# Altium footprint library WS-TASV.PcbLib: 101 footprints (part 5 of 7)
Each footprint in its own frame and in the unit in brackets; x right, y up, seen from the top. Pads: shape width x height; smd on the part's side, far side on the other; paste and mask are expansions set on the pad; w line width, h text height; cw(c..) or ccw(c..) is an arc to the next point about the centre after c.
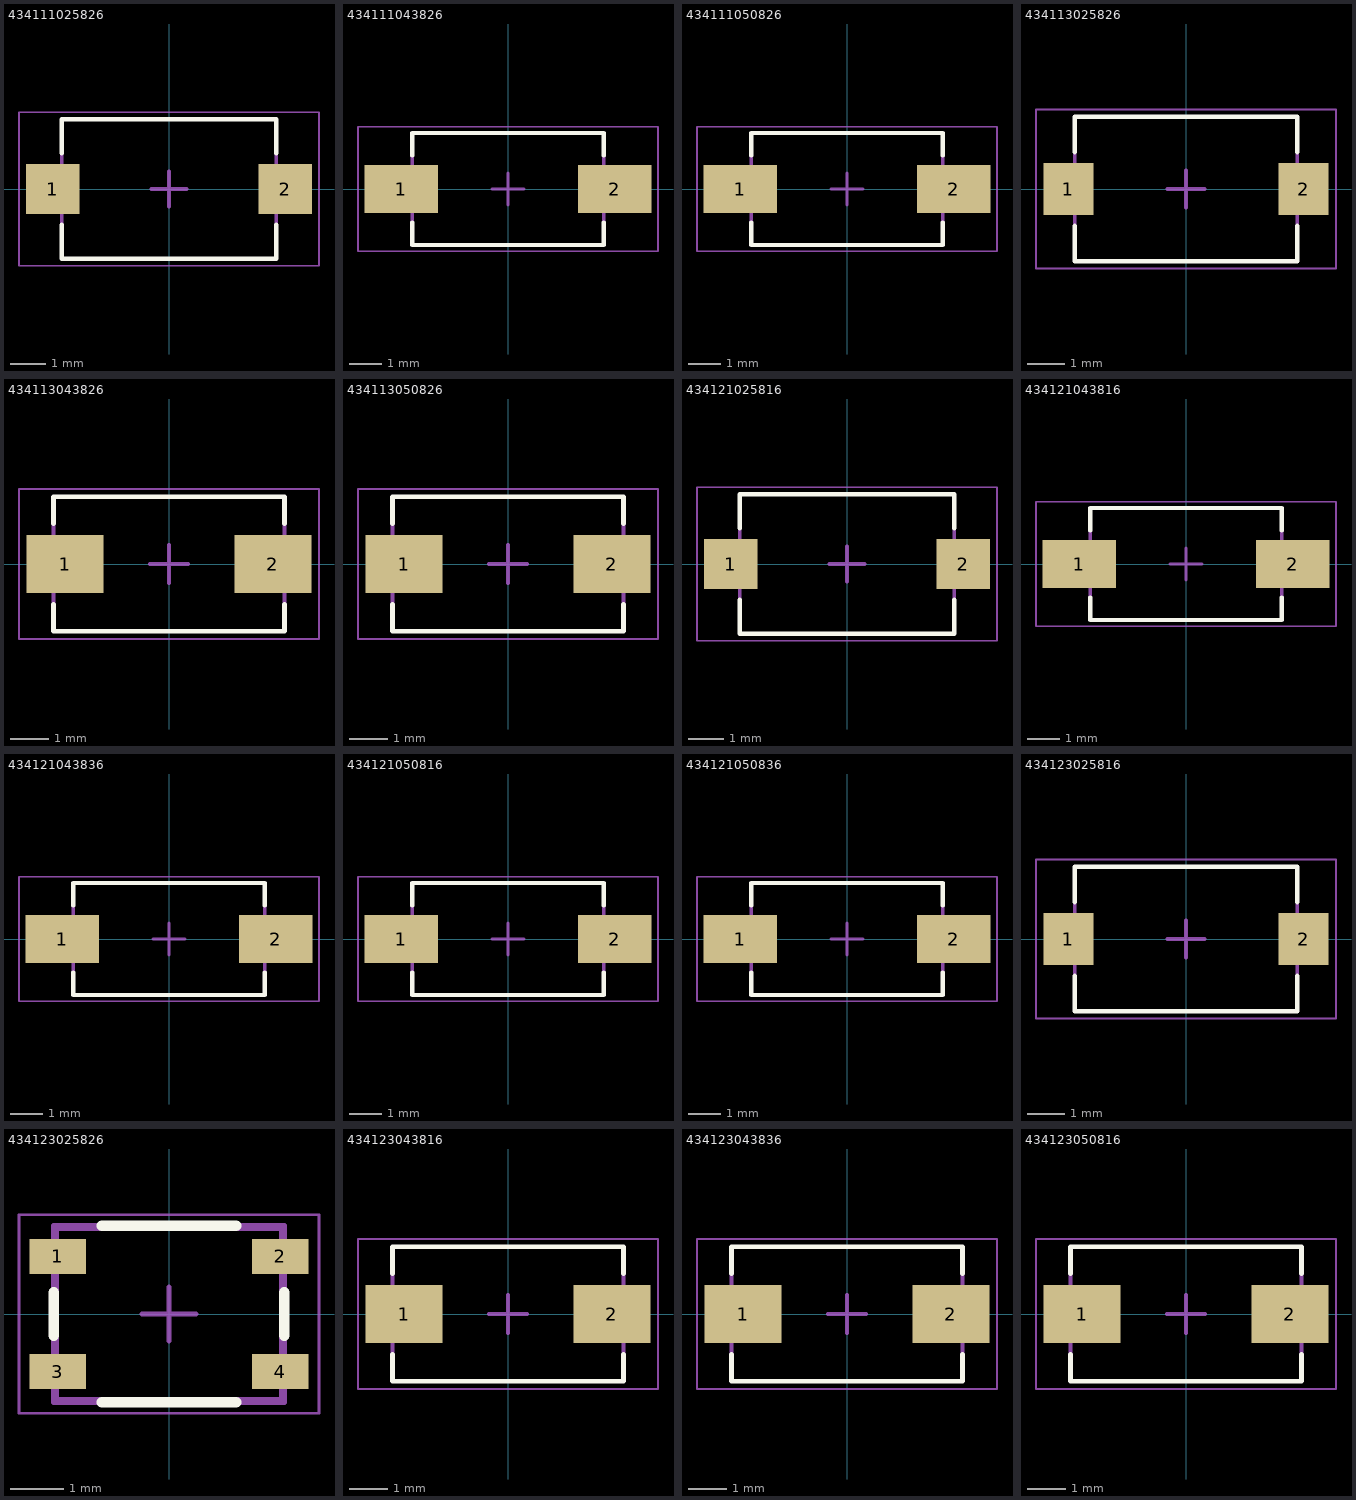
[diagram p4: the footprints below, top view; thin cyan lines are the x and y axes]

## 434111025826 [mm] "SMD Tact Switch, body 6x3.8mm"
height 2.5
pads (2):
  rect 1.5x1.4 smd: 1(-3.25,0) 2(3.25,0)
Top Overlay:
  lines w0.127: -3,-1 -3,-1.95 3,-1.95 3,-1 ; -3,1 -3,1.95 3,1.95 3,1
Top Assembly:
  lines w0.1: -3,-0.5 -3.65,-0.5 -3.65,0.5 -3,0.5 ; 3,-0.5 3.65,-0.5 3.65,0.5 3,0.5 ; -3,-1.95 -3,1.95 3,1.95 3,-1.95 -3,-1.95
Top Designator:
  text ".Designator" at -3.647,-0.357 h1
Top Courtyard:
  lines w0.05: -4.2,-2.15 4.2,-2.15 4.2,2.15 -4.2,2.15 -4.2,-2.15
Top Component Center:
  lines w0.1: -0.5,0 0.5,0 ; 0,-0.5 0,0.5
3D body "4341x10258xx.stp": height 2.5, standoff 0, extent -3.65,-1.95 3.65,1.95

## 434111043826 [mm] "SMD Tact Switch, body 6x3.5mm"
height 4.3
pads (2):
  rect 2.3x1.5 smd: 1(-3.35,0) 2(3.35,0)
Top Overlay:
  lines w0.127: -3,-1.05 -3,-1.75 3,-1.75 3,-1.05 ; -3,1.05 -3,1.75 3,1.75 3,1.05
Top Assembly:
  lines w0.1: -3,-0.5 -4,-0.5 -4,0.5 -3,0.5 ; 3,-0.5 4,-0.5 4,0.5 3,0.5 ; -3,-1.75 -3,1.75 3,1.75 3,-1.75 -3,-1.75
Top Designator:
  text ".Designator" at -3.647,-0.357 h1
Top Courtyard:
  lines w0.05: -4.7,-1.95 -4.7,1.95 4.7,1.95 4.7,-1.95 -4.7,-1.95
Top Component Center:
  lines w0.1: -0.5,0 0.5,0 ; 0,-0.5 0,0.5
3D body "4341x10438x6.stp": height 4.3, standoff 0, extent -4,-1.75 4,1.75

## 434111050826 [mm] "SMD Tact Switch, body 6x3.5mm"
height 5
pads (2):
  rect 2.3x1.5 smd: 1(-3.35,0) 2(3.35,0)
Top Overlay:
  lines w0.127: -3,-1.05 -3,-1.75 3,-1.75 3,-1.05 ; -3,1.05 -3,1.75 3,1.75 3,1.05
Top Assembly:
  lines w0.1: -3,-0.5 -4,-0.5 -4,0.5 -3,0.5 ; 3,-0.5 4,-0.5 4,0.5 3,0.5 ; -3,-1.75 -3,1.75 3,1.75 3,-1.75 -3,-1.75
Top Designator:
  text ".Designator" at -3.647,-0.357 h1
Top Courtyard:
  lines w0.05: -4.7,-1.95 -4.7,1.95 4.7,1.95 4.7,-1.95 -4.7,-1.95
Top Component Center:
  lines w0.1: -0.5,0 0.5,0 ; 0,-0.5 0,0.5
3D body "4341x10508x6.stp": height 5, standoff 0, extent -4,-1.75 4,1.75

## 434113025826 [mm] "SMD Tact Switch, body 6x3.8mm"
height 2.5
pads (2):
  rect 1.35x1.4 smd: 1(-3.175,0) 2(3.175,0)
Top Overlay:
  lines w0.127: -3,-1 -3,-1.95 3,-1.95 3,-1 ; -3,1 -3,1.95 3,1.95 3,1
Top Assembly:
  lines w0.1: -3,-1.95 3,-1.95 3,1.95 -3,1.95 -3,-1.95
Top Designator:
  text ".Designator" at -3.647,-0.357 h1
Top Courtyard:
  lines w0.05: -4.05,-2.15 4.05,-2.15 4.05,2.15 -4.05,2.15 -4.05,-2.15
Top Component Center:
  lines w0.1: -0.5,0 0.5,0 ; 0,-0.5 0,0.5
3D body "4341x30258xx.stp": height 2.5, standoff 0, extent -3.5,-1.95 3.5,1.95

## 434113043826 [mm] "SMD Tact Switch, body 6x3.5mm"
height 4.3
pads (2):
  rect 2x1.5 smd: 1(-2.7,0) 2(2.7,0)
Top Overlay:
  lines w0.127: -3,-1.05 -3,-1.75 3,-1.75 3,-1.05 ; -3,1.05 -3,1.75 3,1.75 3,1.05
Top Assembly:
  lines w0.1: -3,-1.75 3,-1.75 3,1.75 -3,1.75 -3,-1.75
Top Designator:
  text ".Designator" at -3.647,-0.357 h1
Top Courtyard:
  lines w0.05: -3.9,-1.95 -3.9,1.95 3.9,1.95 3.9,-1.95 -3.9,-1.95
Top Component Center:
  lines w0.1: -0.5,0 0.5,0 ; 0,-0.5 0,0.5
3D body "4341x30438x6.stp": height 4.3, standoff 0, extent -3.649,-1.75 3.65,1.75

## 434113050826 [mm] "SMD Tact Switch, body 6x3.5mm"
height 5
pads (2):
  rect 2x1.5 smd: 1(-2.7,0) 2(2.7,0)
Top Overlay:
  lines w0.127: -3,-1.05 -3,-1.75 3,-1.75 3,-1.05 ; -3,1.05 -3,1.75 3,1.75 3,1.05
Top Assembly:
  lines w0.1: -3,-1.75 -3,1.75 3,1.75 3,-1.75 -3,-1.75
Top Designator:
  text ".Designator" at -3.647,-0.357 h1
Top Courtyard:
  lines w0.05: -3.9,-1.95 3.9,-1.95 3.9,1.95 -3.9,1.95 -3.9,-1.95
Top Component Center:
  lines w0.1: -0.5,0 0.5,0 ; 0,-0.5 0,0.5
3D body "4341x30508x6.stp": height 5, standoff 0, extent -3.649,-1.75 3.65,1.75

## 434121025816 [mm] "SMD Tact Switch, body 6x3.8mm"
height 2.5
pads (2):
  rect 1.5x1.4 smd: 1(-3.25,0) 2(3.25,0)
Top Overlay:
  lines w0.127: -3,-1 -3,-1.95 3,-1.95 3,-1 ; -3,1 -3,1.95 3,1.95 3,1
Top Assembly:
  lines w0.1: -3,-0.5 -3.65,-0.5 -3.65,0.5 -3,0.5 ; 3,-0.5 3.65,-0.5 3.65,0.5 3,0.5 ; -3,-1.95 3,-1.95 3,1.95 -3,1.95 -3,-1.95
Top Designator:
  text ".Designator" at -3.647,-0.357 h1
Top Courtyard:
  lines w0.05: -4.2,-2.15 -4.2,2.15 4.2,2.15 4.2,-2.15 -4.2,-2.15
Top Component Center:
  lines w0.1: -0.5,0 0.5,0 ; 0,-0.5 0,0.5
3D body "4341x10258xx.stp": height 2.5, standoff 0, extent -3.65,-1.95 3.65,1.95

## 434121043816 [mm] "SMD Tact Switch, body 6x3.5mm"
height 4.3
pads (2):
  rect 2.3x1.5 smd: 1(-3.35,0) 2(3.35,0)
Top Overlay:
  lines w0.127: -3,-1.05 -3,-1.75 3,-1.75 3,-1.05 ; -3,1.05 -3,1.75 3,1.75 3,1.05
Top Assembly:
  lines w0.1: -3,-0.5 -4,-0.5 -4,0.5 -3,0.5 ; 3,-0.5 4,-0.5 4,0.5 3,0.5 ; -3,-1.75 3,-1.75 3,1.75 -3,1.75 -3,-1.75
Top Designator:
  text ".Designator" at -3.647,-0.357 h1
Top Courtyard:
  lines w0.05: -4.7,-1.95 4.7,-1.95 4.7,1.95 -4.7,1.95 -4.7,-1.95
Top Component Center:
  lines w0.1: -0.5,0 0.5,0 ; 0,-0.5 0,0.5
3D body "4341x10438x6.stp": height 4.3, standoff 0, extent -4,-1.75 4,1.75

## 434121043836 [mm] "SMD Tact Switch, body 6x3.5mm"
height 4.3
pads (2):
  rect 2.3x1.5 smd: 1(-3.35,0) 2(3.35,0)
Top Overlay:
  lines w0.127: -3,-1.05 -3,-1.75 3,-1.75 3,-1.05 ; -3,1.05 -3,1.75 3,1.75 3,1.05
Top Assembly:
  lines w0.1: -3,-0.5 -4,-0.5 -4,0.5 -3,0.5 ; 3,-0.5 4,-0.5 4,0.5 3,0.5 ; -3,-1.75 -3,1.75 3,1.75 3,-1.75 -3,-1.75
Top Designator:
  text ".Designator" at -3.647,-0.357 h1
Top Courtyard:
  lines w0.05: -4.7,-1.95 -4.7,1.95 4.7,1.95 4.7,-1.95 -4.7,-1.95
Top Component Center:
  lines w0.1: -0.5,0 0.5,0 ; 0,-0.5 0,0.5
3D body "4341x10438x6.stp": height 4.3, standoff 0, extent -4,-1.75 4,1.75

## 434121050816 [mm] "SMD Tact Switch, body 6x3.5mm"
height 5
pads (2):
  rect 2.3x1.5 smd: 1(-3.35,0) 2(3.35,0)
Top Overlay:
  lines w0.127: -3,-1.05 -3,-1.75 3,-1.75 3,-1.05 ; -3,1.05 -3,1.75 3,1.75 3,1.05
Top Assembly:
  lines w0.1: -3,-0.5 -4,-0.5 -4,0.5 -3,0.5 ; 3,-0.5 4,-0.5 4,0.5 3,0.5 ; -3,-1.75 -3,1.75 3,1.75 3,-1.75 -3,-1.75
Top Designator:
  text ".Designator" at -3.647,-0.357 h1
Top Courtyard:
  lines w0.05: -4.7,-1.95 -4.7,1.95 4.7,1.95 4.7,-1.95 -4.7,-1.95
Top Component Center:
  lines w0.1: -0.5,0 0.5,0 ; 0,-0.5 0,0.5
3D body "4341x10508x6.stp": height 5, standoff 0, extent -4,-1.75 4,1.75

## 434121050836 [mm] "SMD Tact Switch, body 6x3.5mm"
height 5
pads (2):
  rect 2.3x1.5 smd: 1(-3.35,0) 2(3.35,0)
Top Overlay:
  lines w0.127: -3,-1.05 -3,-1.75 3,-1.75 3,-1.05 ; -3,1.05 -3,1.75 3,1.75 3,1.05
Top Assembly:
  lines w0.1: -3,-0.5 -4,-0.5 -4,0.5 -3,0.5 ; 3,-0.5 4,-0.5 4,0.5 3,0.5 ; -3,-1.75 3,-1.75 3,1.75 -3,1.75 -3,-1.75
Top Designator:
  text ".Designator" at -3.647,-0.357 h1
Top Courtyard:
  lines w0.05: -4.7,-1.95 4.7,-1.95 4.7,1.95 -4.7,1.95 -4.7,-1.95
Top Component Center:
  lines w0.1: -0.5,0 0.5,0 ; 0,-0.5 0,0.5
3D body "4341x10508x6.stp": height 5, standoff 0, extent -4,-1.75 4,1.75

## 434123025816 [mm] "SMD Tact Switch, body 6x3.8mm"
height 2.5
pads (2):
  rect 1.35x1.4 smd: 1(-3.175,0) 2(3.175,0)
Top Overlay:
  lines w0.127: -3,-1 -3,-1.95 3,-1.95 3,-1 ; -3,1 -3,1.95 3,1.95 3,1
Top Assembly:
  lines w0.1: -3,-1.95 -3,1.95 3,1.95 3,-1.95 -3,-1.95
Top Designator:
  text ".Designator" at -3.647,-0.357 h1
Top Courtyard:
  lines w0.05: -4.05,-2.15 -4.05,2.15 4.05,2.15 4.05,-2.15 -4.05,-2.15
Top Component Center:
  lines w0.1: -0.5,0 0.5,0 ; 0,-0.5 0,0.5
3D body "4341x30258xx.stp": height 2.5, standoff 0, extent -3.5,-1.95 3.5,1.95

## 434123025826 [mm] "Tact Switch, SMD, body 4.2x3.2mm"
height 2.5
pads (4):
  rect 1.05x0.65 smd: 1(-2.075,1.075) 2(2.075,1.075) 3(-2.075,-1.075) 4(2.075,-1.075)
Top Overlay:
  lines w0.2: -2.15,-0.4 -2.15,0.4 ; -1.25,-1.65 1.25,-1.65 ; -1.25,1.65 1.25,1.65 ; 2.15,-0.4 2.15,0.4
Top Assembly:
  lines w0.1: -2.15,-1.65 2.15,-1.65 2.15,1.65 -2.15,1.65 -2.15,-1.65
Top Designator:
  text ".Designator" at -3.647,-0.357 h1
Top 3D Body:
  lines w0.1: -2.1,-1.6 2.1,-1.6 2.1,1.6 -2.1,1.6 -2.1,-1.6
Top Courtyard:
  lines w0.05: -2.8,-1.85 2.8,-1.85 2.8,1.85 -2.8,1.85 -2.8,-1.85
Top Component Center:
  lines w0.1: -0.5,0 0.5,0 ; 0,-0.5 0,0.5
3D body "4341x30258x6.stp": height 2.5, standoff 0, extent -2.299,-1.6 2.299,1.6

## 434123043816 [mm] "SMD Tact Switch, body 6x3.5mm"
height 4.3
pads (2):
  rect 2x1.5 smd: 1(-2.7,0) 2(2.7,0)
Top Overlay:
  lines w0.127: -3,-1.05 -3,-1.75 3,-1.75 3,-1.05 ; -3,1.05 -3,1.75 3,1.75 3,1.05
Top Assembly:
  lines w0.1: -3,-1.75 -3,1.75 3,1.75 3,-1.75 -3,-1.75
Top Designator:
  text ".Designator" at -3.647,-0.357 h1
Top Courtyard:
  lines w0.05: -3.9,-1.95 3.9,-1.95 3.9,1.95 -3.9,1.95 -3.9,-1.95
Top Component Center:
  lines w0.1: -0.5,0 0.5,0 ; 0,-0.5 0,0.5
3D body "4341x30438x6.stp": height 4.3, standoff 0, extent -3.649,-1.75 3.65,1.75

## 434123043836 [mm] "SMD Tact Switch, body 6x3.5mm"
height 4.3
pads (2):
  rect 2x1.5 smd: 1(-2.7,0) 2(2.7,0)
Top Overlay:
  lines w0.127: -3,-1.05 -3,-1.75 3,-1.75 3,-1.05 ; -3,1.05 -3,1.75 3,1.75 3,1.05
Top Assembly:
  lines w0.1: -3,-1.75 3,-1.75 3,1.75 -3,1.75 -3,-1.75
Top Designator:
  text ".Designator" at -3.647,-0.357 h1
Top Courtyard:
  lines w0.05: -3.9,-1.95 -3.9,1.95 3.9,1.95 3.9,-1.95 -3.9,-1.95
Top Component Center:
  lines w0.1: -0.5,0 0.5,0 ; 0,-0.5 0,0.5
3D body "4341x30438x6.stp": height 4.3, standoff 0, extent -3.649,-1.75 3.65,1.75

## 434123050816 [mm] "SMD Tact Switch, body 6x3.5mm"
height 5
pads (2):
  rect 2x1.5 smd: 1(-2.7,0) 2(2.7,0)
Top Overlay:
  lines w0.127: -3,-1.05 -3,-1.75 3,-1.75 3,-1.05 ; -3,1.05 -3,1.75 3,1.75 3,1.05
Top Assembly:
  lines w0.1: -3,-1.75 3,-1.75 3,1.75 -3,1.75 -3,-1.75
Top Designator:
  text ".Designator" at -3.647,-0.357 h1
Top Courtyard:
  lines w0.05: -3.9,-1.95 -3.9,1.95 3.9,1.95 3.9,-1.95 -3.9,-1.95
Top Component Center:
  lines w0.1: -0.5,0 0.5,0 ; 0,-0.5 0,0.5
3D body "4341x30508x6.stp": height 5, standoff 0, extent -3.649,-1.75 3.65,1.75